# EAGLE library part TS12001 (library Semtech TS12001)
Semtech - Femtoamp High Side Load Switch
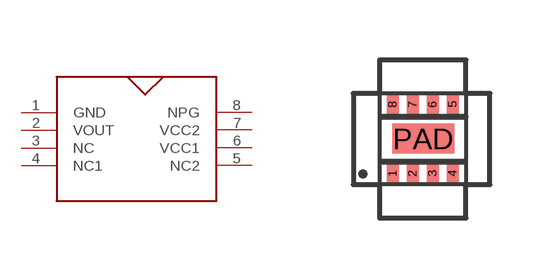
[diagram p0: symbol with the pads of DFN-8.2X2.PAD; footprint DFN-8.2X2.PAD]

Designator prefix -

## TS12001  [DFN-8.2X2.PAD]
1  GND
2  VOUT
3  NC
4  NC1
5  NC2
6  VCC1
7  VCC2
8  NPG

## Footprint DFN-8.2X2.PAD (pad centres in mm)
smd 0.3 x 0.6: 1 -0.75,-0.865; 2 -0.25,-0.865; 3 0.25,-0.865; 4 0.75,-0.865; 5 0.75,0.865; 6 0.25,0.865; 7 -0.25,0.865; 8 -0.75,0.865
smd 1.55 x 0.75: PAD 0.01,0.006